# Altium schematic symbol library TestPoint.Schlib: 1 symbol
Pins are listed as number, name and electrical type; pins without a type are passive.

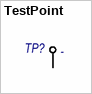
[diagram p0: symbol TestPoint]

## TestPoint
designator TP?, comment test point  (value not drawn)
Point o f the manual control; Наименование: точка ручного контроля; Назначение: -
footprint TestPoint
pins: 0 (hiz)